# EAGLE library part MICROCLASP_20POS (library Victor)
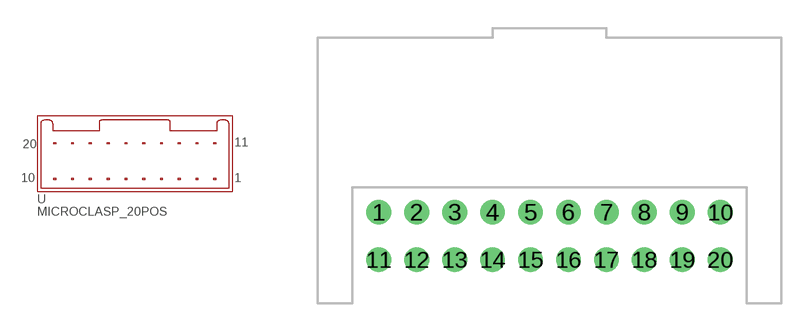
[diagram p7: symbol with the pads of MICROCLASP_20POS; footprint MICROCLASP_20POS]

Designator prefix -

## MICROCLASP_20POS  [MICROCLASP_20POS]
1  1
2  2
3  3
4  4
5  5
6  6
7  7
8  8
9  9
10  10
11  11
12  12
13  13
14  14
15  15
16  16
17  17
18  18
19  19
20  20

## Footprint MICROCLASP_20POS (pad centres in mm)
drill 0.8 round: 1 -9,-2.54; 2 -7,-2.54; 3 -5,-2.54; 4 -3,-2.54; 5 -1,-2.54; 6 1,-2.54; 7 3,-2.54; 8 5,-2.54; 9 7,-2.54; 10 9,-2.54; 11 -9,-5.04; 12 -7,-5.04; 13 -5,-5.04; 14 -3,-5.04; 15 -1,-5.04; 16 1,-5.04; 17 3,-5.04; 18 5,-5.04; 19 7,-5.04; 20 9,-5.04